# Altium schematic symbol library Schlib1.SchLib: 4 symbols
Pins are listed as number, name and electrical type; pins without a type are passive.

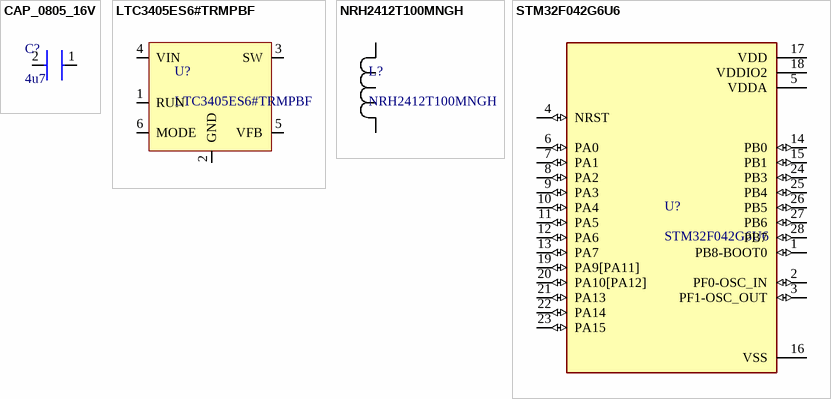
[diagram p0: symbols CAP_0805_16V to STM32F042G6U6]

## CAP_0805_16V
designator C?, comment 4u7
Multilayer Ceramic Capacitors MLCC - SMD/SMT 0805 16VDC 4.7uF 10% X7R 1.25mm; Manufacturer: TDK; Manufacturer Part Number: C2012X7R1C475K125AE
footprint C2012X7R1C475K125AE
pins: 1, 2

## LTC3405ES6#TRMPBF
designator U?
Switching Voltage Regulators 1.5MHz, 300mA Sync Buck Reg in SOT; Manufacturer: Analog Devices; Manufacturer Part Number: LTC3405ES6#TRMPBF
footprint SOT-23-6
pins: 1 RUN (in), 2 GND (power), 3 SW (power), 4 VIN (power), 5 VFB (in), 6 MODE

## NRH2412T100MNGH
designator L?
Power Inductors - SMD 963-LSXNE2424MKT100M RPLCMT PN 2412 10uH 600mOhms; Manufacturer: TAIYO YUDEN; Manufacturer Part Number: NRH2412T100MNGH
footprint NRH2412T100MNGH
pins: 1, 2

## STM32F042G6U6
designator U?
ARM® Cortex®-M0 STM32F0 Microcontroller IC 32-Bit Single-Core 48MHz 32KB (32K x 8) FLASH 28-UFQFPN (4x4); Manufacturer: STMicroelectronics; Manufacturer Part Number: STM32F042G6U6
footprint STM32F042G6U6
pins: 1 PB8-BOOT0 (io), 2 PF0-OSC_IN (io), 3 PF1-OSC_OUT (io), 4 NRST (io), 5 VDDA (power), 6 PA0 (io), 7 PA1 (io), 8 PA2 (io), 9 PA3 (io), 10 PA4 (io), 11 PA5 (io), 12 PA6 (io), 13 PA7 (io), 14 PB0 (io), 15 PB1 (io), 16 VSS (power), 17 VDD (power), 18 VDDIO2 (power), 19 PA9[PA11] (io), 20 PA10[PA12] (io), 21 PA13 (io), 22 PA14 (io), 23 PA15 (io), 24 PB3 (io), 25 PB4 (io), 26 PB5 (io), 27 PB6 (io), 28 PB7 (io)